# Altium schematic symbol library P8208NL.Schlib: 1 symbol
Pins are listed as number, name and electrical type; pins without a type are passive.

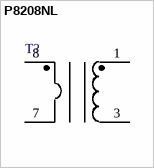
[diagram p0: symbol P8208NL]

## P8208NL
designator T?
pins: 1 2, 3 1, 7, 8